# Altium schematic symbol library SCH - MCU - NUVOTON - NUVOTON NANO120ZC2AN.SchLib: 1 symbol
Pins are listed as number, name and electrical type; pins without a type are passive.

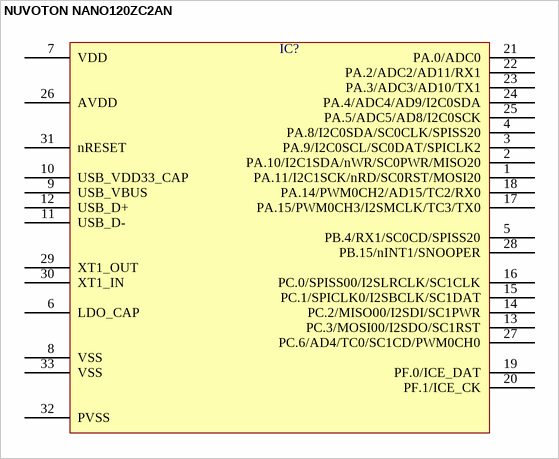
[diagram p0: symbol NUVOTON NANO120ZC2AN]

## NUVOTON NANO120ZC2AN
designator IC?  (value not drawn)
pins: 1 PA.11/I2C1SCK/nRD/SC0RST/MOSI20, 2 PA.10/I2C1SDA/nWR/SC0PWR/MISO20, 3 PA.9/I2C0SCL/SC0DAT/SPICLK2, 4 PA.8/I2C0SDA/SC0CLK/SPISS20, 5 PB.4/RX1/SC0CD/SPISS20, 6 LDO_CAP, 7 VDD, 8 VSS, 9 USB_VBUS, 10 USB_VDD33_CAP, 11 USB_D-, 12 USB_D+, 13 PC.3/MOSI00/I2SDO/SC1RST, 14 PC.2/MISO00/I2SDI/SC1PWR, 15 PC.1/SPICLK0/I2SBCLK/SC1DAT, 16 PC.0/SPISS00/I2SLRCLK/SC1CLK, 17 PA.15/PWM0CH3/I2SMCLK/TC3/TX0, 18 PA.14/PWM0CH2/AD15/TC2/RX0, 19 PF.0/ICE_DAT, 20 PF.1/ICE_CK, 21 PA.0/ADC0, 22 PA.2/ADC2/AD11/RX1, 23 PA.3/ADC3/AD10/TX1, 24 PA.4/ADC4/AD9/I2C0SDA, 25 PA.5/ADC5/AD8/I2C0SCK, 26 AVDD, 27 PC.6/AD4/TC0/SC1CD/PWM0CH0, 28 PB.15/nINT1/SNOOPER, 29 XT1_OUT, 30 XT1_IN, 31 nRESET, 32 PVSS, 33 VSS